# EAGLE library part TLC3544 (library NEWPARTS)
A/D CONVERTER
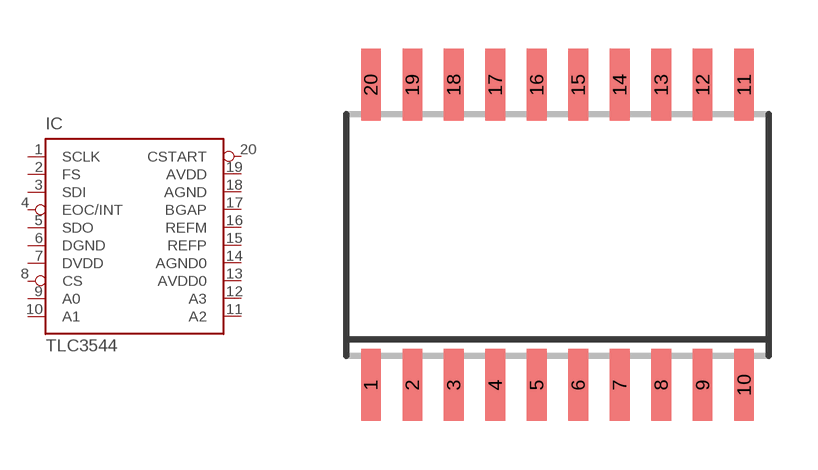
[diagram p0: symbol with the pads of SO20W; footprint SO20W]

Designator prefix IC

## TLC3544D  [SO20W]
1  SCLK  pwr
2  FS  out
3  SDI  in
4  EOC/INT  in
5  SDO  in
6  DGND  in
7  DVDD  in
8  CS  in
9  A0  in
10  A1  in
11  A2  in
12  A3  in
13  AVDD0  pwr
14  AGND0  pwr
15  REFP  out
16  REFM  hiz
17  BGAP  in
18  AGND  in
19  AVDD  in
20  CSTART  in

## Footprint SO20W (pad centres in mm)
Small Outline Package 20 wide
smd 0.6 x 2.2: 1 -5.715,-4.6; 2 -4.445,-4.6; 3 -3.175,-4.6; 4 -1.905,-4.6; 5 -0.635,-4.6; 6 0.635,-4.6; 7 1.905,-4.6; 8 3.175,-4.6; 9 4.445,-4.6; 10 5.715,-4.6; 11 5.715,4.6; 12 4.445,4.6; 13 3.175,4.6; 14 1.905,4.6; 15 0.635,4.6; 16 -0.635,4.6; 17 -1.905,4.6; 18 -3.175,4.6; 19 -4.445,4.6; 20 -5.715,4.6